# EAGLE library part ICM-42670-P (library ICM-42670-P)
Check availability <https://pricing.snapeda.com/parts/ICM-42670-P/TDK%20InvenSense/view-part?ref=eda>
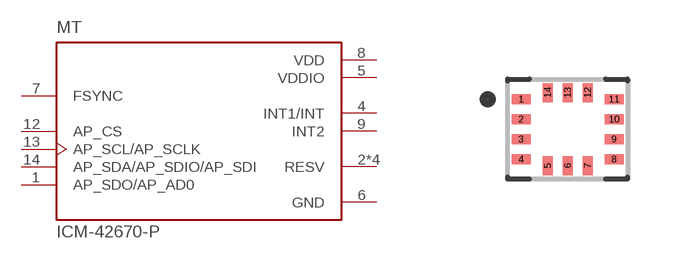
[diagram p0: symbol with the pads of XDCR_ICM-42670-P; footprint XDCR_ICM-42670-P]

Designator prefix MT

## ICM-42670-P (Availability: In Stock; Check_prices: https://www.snapeda.com/parts/ICM-42670-P/TDK/view-part/?ref=eda; Description: Low-Power, Premium Performance 6-Axis MotionTrackingTM IMU with I3C, I2C and SPI interface in 2.5mm x 3mm Package; MF: TDK InvenSense; MP: ICM-42670-P; Package: None; Price: None; SnapEDA_Link: https://www.snapeda.com/parts/ICM-42670-P/TDK/view-part/?ref=snap)  [XDCR_ICM-42670-P]
1  AP_SDO/AP_AD0
2  RESV  pas
3  RESV  pas
4  INT1/INT  out
5  VDDIO  pwr
6  GND  pwr
7  FSYNC  in
8  VDD  pwr
9  INT2  out
10  RESV  pas
11  RESV  pas
12  AP_CS  in
13  AP_SCL/AP_SCLK  in
14  AP_SDA/AP_SDIO/AP_SDI

## Footprint XDCR_ICM-42670-P (pad centres in mm)
smd 0.475 x 0.25: 1 -1.163,0.75; 2 -1.163,0.25; 3 -1.163,-0.25; 4 -1.163,-0.75; 8 1.163,-0.75; 9 1.163,-0.25; 10 1.163,0.25; 11 1.163,0.75
smd 0.25 x 0.475: 5 -0.5,-0.912; 6 0,-0.912; 7 0.5,-0.912; 12 0.5,0.912; 13 0,0.912; 14 -0.5,0.912